# Altium footprint library Seeed-Connector.PCBLIB: 44 footprints (part 1 of 3)
Each footprint in its own frame and in the unit in brackets; x right, y up, seen from the top. Pads: shape width x height; smd on the part's side, far side on the other; paste and mask are expansions set on the pad; w line width, h text height; cw(c..) or ccw(c..) is an arc to the next point about the centre after c.
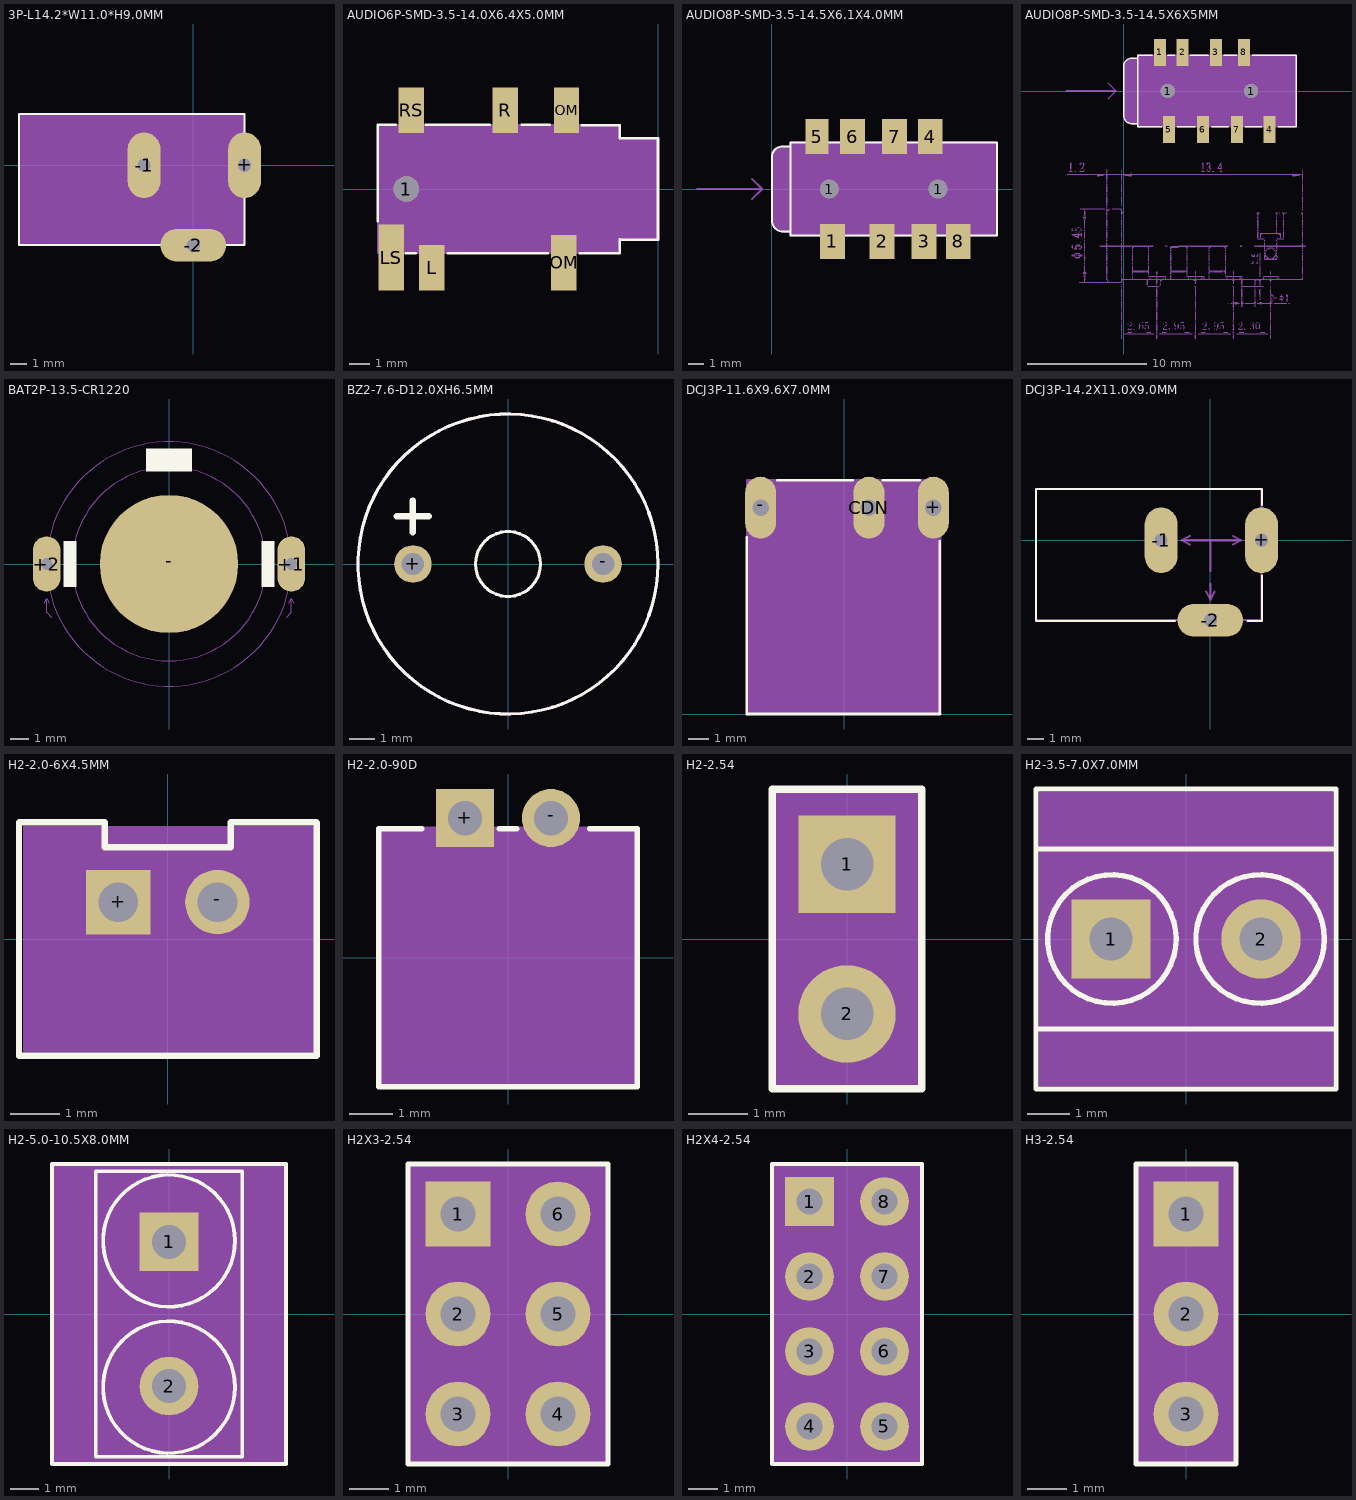
[diagram p0: the footprints below, top view; thin cyan lines are the x and y axes]

## 3P-L14.2*W11.0*H9.0MM [mil]
pads (3):
  oval 80x160 hole 32: +(125,0) -1(-120,0)
  oval 160x80 hole 32: -2(0,-195)
Top Overlay:
  lines w5: -425,-195 125,-195 125,125 -425,125 -425,-195
Bottom Overlay:
  circle w5: c250,-50 r26.93
  circle w5: c250,-50 r7.07
  circle w5: c250,-190 r29.15
  circle w5: c250,130 r29.15
  circle w5: c250,-50 r26.93
  circle w5: c250,-50 r7.07
  circle w5: c250,-190 r29.15
  circle w5: c250,130 r29.15
  lines w5: 230,-190 270,-190 ; 240,-95 250,-80 ; 240,25 250,10 ; 250,-210 250,-170 ; 250,-160 250,-80 ; 250,100 250,10 ; 250,110 250,150 ; 260,-95 250,-80 ; 260,25 250,10 ; 250,-55 250,-45 ; 250,-55 245,-50 250,-45 ; 250,-55 255,-50 250,-45 ; 210,-90 cw(c250,-50) 290,-90 ccw(c250,-50) 210,-90
Mechanical 11:
  region: -120,-55 -123.18,-55 -129.06,-52.56 -133.56,-48.06 -136,-42.18 -136,-39 -136,39 -136,42.18 -133.56,48.06 -129.06,52.56 -123.18,55 -120,55 -116.82,55 -110.94,52.56 -106.44,48.06 -104,42.18 -104,39 -104,-39 -104,-42.18 -106.44,-48.06 -110.94,-52.56 -116.82,-55
  region: 125,-55 121.82,-55 115.94,-52.56 111.44,-48.06 109,-42.18 109,-39 109,39 109,42.18 111.44,48.06 115.94,52.56 121.82,55 125,55 128.18,55 134.06,52.56 138.56,48.06 141,42.18 141,39 141,-39 141,-42.18 138.56,-48.06 134.06,-52.56 128.18,-55
  region: 55,-195 55,-198.18 52.56,-204.06 48.06,-208.56 42.18,-211 39,-211 -39,-211 -42.18,-211 -48.06,-208.56 -52.56,-204.06 -55,-198.18 -55,-195 -55,-191.82 -52.56,-185.94 -48.06,-181.44 -42.18,-179 -39,-179 39,-179 42.18,-179 48.06,-181.44 52.56,-185.94 55,-191.82
  lines w5: -50,-10 -70,0 ; -50,10 -70,0 ; -10,-125 0,-145 ; 0,-105 0,-145 ; 0,-75 0,0 ; 10,-125 0,-145 ; 55,-10 75,0 ; 55,10 75,0 ; -70,0 0,0 ; 0,0 75,0
  text "3 Slot Drills with copper" at -375,-100 h37.2
Mechanical 27:
  rectangle: -424.02,-194.49 124.8,123.23
  lines w0: -425,-195 125,-195 125,125 -425,125 -425,-195

## AUDIO6P-SMD-3.5-14.0X6.4X5.0MM [mil]
pads (7):
  round 50 hole 50: 1(-495,0)
  rect 50x90 smd: COM1(-180,155) L(-445,-155) R(-300,155) RS(-485,155)
  rect 50x110 smd: COM2(-185,-145)
  rect 50x130 smd: LS(-525,-135)
Top Overlay:
  lines w5: -551.18,-62.99 -551.18,125.98 -515.75,125.98 ; -496.06,-125.98 -476.38,-125.98 ; -456.69,125.98 -330.71,125.98 ; -413.39,-125.98 -216.54,-125.98 ; -267.72,125.98 -212.6,125.98 ; -153.54,-125.98 -74.8,-125.98 -74.8,-98.43 ; -149.61,125 -74.8,125 -74.8,102.36 ; -75,-100 0,-100 0,100 -75,100
Mechanical 1:
  lines w1: -127.56,-125 -127.56,125
Mechanical 11:
  region: -125,57 -100,57 -95.12,57.48 -86.11,61.21 -79.21,68.11 -75.48,77.12 -75,82 -75,100 0,100 0,-100 -75,-100 -75,-82 -75.48,-77.12 -79.21,-68.11 -86.11,-61.21 -95.12,-57.48 -100,-57 -125,-57
Mechanical 16:
  lines w5: -75,-100 -75,-125 -550,-125 -550,125 -75,125 -75,100
Mechanical 27:
  rectangle: -550,-125 -75,125

## AUDIO8P-SMD-3.5-14.5X6.1X4.0MM [mm]
pads (10):
  round 1.2 hole 1.2: 1(3.7,0) 1(10.7,0)
  rect 1.6x2.25 smd: 1(3.9,-3.375) 2(7.1,-3.375) 3(9.8,-3.375) 4(10.2,3.375) 6(5.2,3.375) 7(7.9,3.375) 8(12,-3.375)
  rect 1.5x2.25 smd: 5(2.9,3.375)
Top Overlay:
  lines w0.127: 1.2,-2.75 0.719,-2.75 cw(c0.719,-2.031) 0,-2.031 0,2.062 cw(c0.688,2.062) 0.688,2.75 1.2,2.75 ; 1.2,-2.75 1.2,-3 14.5,-3 14.5,3 1.2,3 1.2,2.75 ; 1.2,-2.75 1.2,2.75
Mechanical 11:
  region: 1.206,2.73 0.687,2.73 0.619,2.73 0.486,2.704 0.361,2.652 0.249,2.577 0.153,2.482 0.078,2.369 0.026,2.244 0,2.111 0,2.044 0,-1.942 0,-2.026 0.033,-2.191 0.097,-2.346 0.19,-2.485 0.309,-2.604 0.448,-2.697 0.603,-2.761 0.768,-2.794 0.852,-2.794 1.206,-2.794
  lines w0.025: 0,-1.869 ccw(c0.925,-1.869) 0.925,-2.794 1.206,-2.794 1.206,2.73 0.71,2.73 ccw(c0.71,2.021) 0,2.021 0,-1.869
  lines w0.127: -4.826,0 -0.635,0 ; -1.27,-0.635 -0.635,0 ; -1.27,0.635 -0.635,0
  text "The place have a bulge ," at -26.035,0.108 h1.38
  text "please place it out of board." at -26.035,-1.27 h1.38
Mechanical 27:
  rectangle: 1.143,-3.048 14.478,3.048

## AUDIO8P-SMD-3.5-14.5X6X5MM [mm]
pads (10):
  rect 1x2.25 smd: 1(3.05,3.24) 2(4.95,3.24) 3(7.75,3.24) 4(12.26,-3.24) 5(3.81,-3.24) 6(6.66,-3.24) 7(9.51,-3.24) 8(10.1,3.24)
  round 1.2 hole 1.2: 1(3.7,0) 1(10.7,0)
Top Overlay:
  lines w0.127: 2.4,3 1.2,3 1.2,2.75 ; 3.2,-3 1.2,-3 1.2,-2.75 ; 3.7,3 4.3,3 ; 4.5,-3 6,-3 ; 5.6,3 7.1,3 ; 7.4,-3 8.8,-3 ; 8.4,3 9.5,3 ; 10.2,-3 11.6,-3 ; 10.8,3 14.5,3 14.5,-3 13,-3 ; 1.2,-2.75 0.719,-2.75 cw(c0.719,-2.031) 0,-2.031 0,2.062 cw(c0.688,2.062) 0.688,2.75 1.2,2.75 ; 1.2,-2.75 1.2,2.75
Mechanical 11:
  region: 1.206,2.73 0.687,2.73 0.619,2.73 0.486,2.704 0.361,2.652 0.249,2.577 0.153,2.482 0.078,2.369 0.026,2.244 0,2.111 0,2.044 0,-1.942 0,-2.026 0.033,-2.191 0.097,-2.346 0.19,-2.485 0.309,-2.604 0.448,-2.697 0.603,-2.761 0.768,-2.794 0.852,-2.794 1.206,-2.794
  lines w0.025: 0,-1.869 ccw(c0.925,-1.869) 0.925,-2.794 1.206,-2.794 1.206,2.73 0.71,2.73 ccw(c0.71,2.021) 0,2.021 0,-1.869
  lines w0.127: -4.826,0 -0.635,0 ; -1.27,-0.635 -0.635,0 ; -1.27,0.635 -0.635,0
  text "The place have a bulge ," at -26.035,0.108 h1.38
  text "please place it out of board." at -26.035,-1.27 h1.38
Mechanical 14:
  drawing of 4872 lines, arcs and shapes, not listed
  text "left view:" at -21.717,-14.122 h1.21
Mechanical 16:
  lines w0.127: 1.2,-3 14.5,-3 ; 1.2,3 14.5,3
Mechanical 27:
  rectangle: 1.143,-3.048 14.478,3.048

## BAT2P-13.5-CR1220 [mil]
pads (3):
  oval 60x120 hole 25: +1(265,0) +2(-265,0)
  rrect100% 300x300 smd: -(0,0)
Top Overlay:
  rectangle: -50,200 50,250
  rectangle: -228.35,-50 -200,50
  rectangle: 200,-50 228.35,50
Mechanical 11:
  region: -277.5,15 -277.5,17.49 -275.6,22.08 -272.08,25.6 -267.49,27.5 -265,27.5 -262.51,27.5 -257.92,25.6 -254.4,22.08 -252.5,17.49 -252.5,15 -252.5,-15 -252.5,-17.49 -254.4,-22.08 -257.92,-25.6 -262.51,-27.5 -265,-27.5 -267.49,-27.5 -272.08,-25.6 -275.6,-22.08 -277.5,-17.49 -277.5,-15
  region: 252.5,15 252.5,17.49 254.4,22.08 257.92,25.6 262.51,27.5 265,27.5 267.49,27.5 272.08,25.6 275.6,22.08 277.5,17.49 277.5,15 277.5,-15 277.5,-17.49 275.6,-22.08 272.08,-25.6 267.49,-27.5 265,-27.5 262.51,-27.5 257.92,-25.6 254.4,-22.08 252.5,-17.49 252.5,-15
  lines w1: -270,-85 -265,-75 ; -260,-85 -265,-75 ; -255,-115 -265,-105 -265,-75 ; 255,-115 265,-105 265,-75 ; 260,-85 265,-75 ; 270,-85 265,-75
  text "slot drill with copper" at -275,-145 h49.6
Mechanical 16:
  circle w0: c0,0 r210
Mechanical 27:
  circle w0: c0,0 r265

## BZ2-7.6-D12.0XH6.5MM [mil]
pads (2):
  round 59.06 hole 35.43: +(-149.61,0) -(149.61,0)
Top Overlay:
  circle w5: c0,0 r236.22
  circle w5: c0,0 r51.18
  lines w10: -175,75 -150,75 ; -150,50 -150,75 ; -150,100 -150,75 ; -125,75 -150,75
Mechanical 27:
  circle w5: c0,0 r236.22

## DCJ3P-11.6X9.6X7.0MM [mil]
pads (3):
  oval 60x120 hole 32: +(172.5,400) -(-162.5,400) CDN(47.5,400)
Top Overlay:
  lines w5: -188.98,0 -188.98,342.52 ; -188.72,0 185.04,0 ; -129.92,452.76 15.75,452.76 ; 74.8,452.76 145.67,452.76 ; 185.04,334.65 185.04,0 ; 185.3,0 185.04,0
Bottom Overlay:
  circle w5: c22.5,525 r26.93
  circle w5: c22.5,525 r7.07
  circle w5: c162.5,525 r29.15
  circle w5: c-157.5,525 r29.15
  circle w5: c22.5,525 r26.93
  circle w5: c22.5,525 r7.07
  circle w5: c162.5,525 r29.15
  circle w5: c-157.5,525 r29.15
  lines w5: -177.5,525 -137.5,525 ; -127.5,525 -37.5,525 ; -52.5,515 -37.5,525 ; -52.5,535 -37.5,525 ; 67.5,515 52.5,525 ; 67.5,535 52.5,525 ; 132.5,525 52.5,525 ; 142.5,525 182.5,525 ; 162.5,505 162.5,545 ; 17.5,525 27.5,525 ; 17.5,525 22.5,520 27.5,525 ; 17.5,525 22.5,530 27.5,525 ; 62.5,485 cw(c22.5,525) 62.5,565 ccw(c22.5,525) 62.5,485
Mechanical 1:
  lines w1: -7.62,133.86 ccw(c0.26,133.86) 0.26,125.98 55.37,125.98 ccw(c55.37,133.86) 63.25,133.86 63.25,188.98 ccw(c55.38,188.97) 55.37,196.85 0.26,196.85 ccw(c0.26,188.97) -7.62,188.98 -7.62,133.86
Mechanical 11:
  region: -177.5,425 -177.5,427.98 -175.22,433.5 -171,437.72 -165.48,440 -162.5,440 -159.52,440 -154,437.72 -149.78,433.5 -147.5,427.98 -147.5,425 -147.5,375 -147.5,372.02 -149.78,366.5 -154,362.28 -159.52,360 -162.5,360 -165.48,360 -171,362.28 -175.22,366.5 -177.5,372.02 -177.5,375
  region: 32.5,425 32.5,427.98 34.78,433.5 39,437.72 44.52,440 47.5,440 50.48,440 56,437.72 60.22,433.5 62.5,427.98 62.5,425 62.5,375 62.5,372.02 60.22,366.5 56,362.28 50.48,360 47.5,360 44.52,360 39,362.28 34.78,366.5 32.5,372.02 32.5,375
  region: 157.5,425 157.5,427.98 159.78,433.5 164,437.72 169.52,440 172.5,440 175.48,440 181,437.72 185.22,433.5 187.5,427.98 187.5,425 187.5,375 187.5,372.02 185.22,366.5 181,362.28 175.48,360 172.5,360 169.52,360 164,362.28 159.78,366.5 157.5,372.02 157.5,375
  region: 32,425 32,427.98 34.28,433.5 38.5,437.72 44.02,440 47,440 49.98,440 55.5,437.72 59.72,433.5 62,427.98 62,425 62,375 62,372.02 59.72,366.5 55.5,362.28 49.98,360 47,360 44.02,360 38.5,362.28 34.28,366.5 32,372.02 32,375
  region: 157.5,425 157.5,427.98 159.78,433.5 164,437.72 169.52,440 172.5,440 175.48,440 181,437.72 185.22,433.5 187.5,427.98 187.5,425 187.5,375 187.5,372.02 185.22,366.5 181,362.28 175.48,360 172.5,360 169.52,360 164,362.28 159.78,366.5 157.5,372.02 157.5,375
  lines w5: -172.5,320 -162.5,340 ; -162.5,285 -162.5,340 ; -152.5,320 -162.5,340 ; 37.5,320 47.5,340 ; 47.5,285 47.5,340 ; 57.5,320 47.5,340 ; 162.5,320 172.5,340 ; 172.5,285 172.5,340 ; 182.5,320 172.5,340
  text "3 Slot drills with copper" at -302.5,250 h49.6
Mechanical 16:
  lines w5: -188.72,0 -188.72,452.76 185.3,452.76 185.3,0
Mechanical 27:
  rectangle: -188.72,0 185.3,452.76

## DCJ3P-14.2X11.0X9.0MM [mil]
pads (3):
  oval 80x160 hole 32: +(125,0) -1(-120,0)
  oval 160x80 hole 32: -2(0,-195)
Top Overlay:
  lines w5: -425.2,-192.91 -425.2,-196.85 -86.61,-196.85 ; -425,-195 -425,125 125,125 ; 90.55,-196.85 125.98,-196.85 125.98,-86.61 ; 125.98,86.61 125.98,125
Bottom Overlay:
  circle w5: c250,-50 r26.93
  circle w5: c250,-50 r7.07
  circle w5: c250,-190 r29.15
  circle w5: c250,130 r29.15
  circle w5: c250,-50 r26.93
  circle w5: c250,-50 r7.07
  circle w5: c250,-190 r29.15
  circle w5: c250,130 r29.15
  lines w5: 230,-190 270,-190 ; 240,-95 250,-80 ; 240,25 250,10 ; 250,-210 250,-170 ; 250,-160 250,-80 ; 250,100 250,10 ; 250,110 250,150 ; 260,-95 250,-80 ; 260,25 250,10 ; 250,-55 250,-45 ; 250,-55 245,-50 250,-45 ; 250,-55 255,-50 250,-45 ; 210,-90 cw(c250,-50) 290,-90 ccw(c250,-50) 210,-90
Mechanical 11:
  region: -120,-55 -123.18,-55 -129.06,-52.56 -133.56,-48.06 -136,-42.18 -136,-39 -136,39 -136,42.18 -133.56,48.06 -129.06,52.56 -123.18,55 -120,55 -116.82,55 -110.94,52.56 -106.44,48.06 -104,42.18 -104,39 -104,-39 -104,-42.18 -106.44,-48.06 -110.94,-52.56 -116.82,-55
  region: 125,-55 121.82,-55 115.94,-52.56 111.44,-48.06 109,-42.18 109,-39 109,39 109,42.18 111.44,48.06 115.94,52.56 121.82,55 125,55 128.18,55 134.06,52.56 138.56,48.06 141,42.18 141,39 141,-39 141,-42.18 138.56,-48.06 134.06,-52.56 128.18,-55
  region: 55,-195 55,-198.18 52.56,-204.06 48.06,-208.56 42.18,-211 39,-211 -39,-211 -42.18,-211 -48.06,-208.56 -52.56,-204.06 -55,-198.18 -55,-195 -55,-191.82 -52.56,-185.94 -48.06,-181.44 -42.18,-179 -39,-179 39,-179 42.18,-179 48.06,-181.44 52.56,-185.94 55,-191.82
  lines w5: -50,-10 -70,0 ; -50,10 -70,0 ; -10,-125 0,-145 ; 0,-105 0,-145 ; 0,-75 0,0 ; 10,-125 0,-145 ; 55,-10 75,0 ; 55,10 75,0 ; -70,0 0,0 ; 0,0 75,0
  text "3 Slot Drills with copper" at -375,-100 h37.2
Mechanical 16:
  lines w5: -425,-195 125,-195 125,125
Mechanical 27:
  lines w0: -425,-195 125,-195 125,125 -425,125 -425,-195

## H2-2.0-6X4.5MM [mil]
pads (2):
  rect 51.18x51.18 hole 31.5: +(-39.37,29.53)
  round 51.18 hole 31.5: -(39.37,29.53)
Top Overlay:
  lines w5: -118.11,92.52 -118.11,-92.52 118.11,-92.52 118.11,92.52 ; -118,93 -50,93 -50,73 50,73 50,93 118,93
Mechanical 27:
  region: 120,90 -115,90 -115,-90 120,-90

## H2-2.0-90D [mm]
pads (2):
  rect 1.35x1.35 hole 0.8: +(-1,3.25)
  round 1.35 hole 0.8: -(1,3.25)
Top Overlay:
  lines w0.127: -2,3 -3,3 -3,-3 3,-3 3,3 1.9,3 ; -0.2,3 0.2,3
Mechanical 27:
  rectangle: -3.048,-3.048 3.048,3.048

## H2-2.54 [mil]
pads (2):
  rect 65x65 hole 35: 1(0,50)
  round 65 hole 35: 2(0,-50)
Top Overlay:
  lines w5: -50,-100 50,-100 50,100 -50,100 -50,-100
Mechanical 27:
  rectangle: -50,-100 50,100
  lines w0: -50,-100 -50,100 50,100 50,-100

## H2-3.5-7.0X7.0MM [mm]
pads (2):
  rect 1.85x1.85 hole 1: 1(-1.75,0)
  round 1.85 hole 1: 2(1.75,0)
Top Overlay:
  circle w0.127: c-1.73,0 r1.5
  circle w0.127: c1.73,0 r1.5
  lines w0.127: -3.5,-2.1 -3.5,-3.5 3.5,-3.5 3.5,-2.1 ; -3.5,-2.1 -3.5,2.1 ; -3.5,-2.1 3.5,-2.1 ; -3.5,2.1 -3.5,3.5 3.5,3.5 3.5,2.1 ; -3.5,2.1 3.5,2.1 ; 3.5,-2.1 3.5,2.1
Mechanical 27:
  rectangle: -3.429,-3.429 3.429,3.429

## H2-5.0-10.5X8.0MM [mil]
pads (2):
  rect 80x80 hole 46: 1(0,98.43)
  round 80 hole 46: 2(0,-98.43)
Top Overlay:
  circle w5: c0,100 r90.14
  circle w5: c0,-100 r90.14
  lines w5: -160,-205 160,-205 160,205 -160,205 -160,-205 ; -100,-195 100,-195 100,195 -100,195 -100,-195
Mechanical 27:
  rectangle: -160,-205 160,205

## H2X3-2.54 [mil]
pads (6):
  rect 65x65 hole 35: 1(-50,100)
  round 65 hole 35: 2(-50,0) 3(-50,-100) 4(50,-100) 5(50,0) 6(50,100)
Top Overlay:
  lines w5: -100,-150 100,-150 100,150 -100,150 -100,-150
Mechanical 27:
  rectangle: -100,-150 100,150
  lines w0: -100,-150 100,-150 100,150 -100,150 -100,-150

## H2X4-2.54 [mil]
pads (8):
  rect 65x65 hole 35: 1(-50,150)
  round 65 hole 35: 2(-50,50) 3(-50,-50) 4(-50,-150) 5(50,-150) 6(50,-50) 7(50,50) 8(50,150)
Top Overlay:
  lines w5: -100,-200 100,-200 100,200 -100,200 -100,-200
Mechanical 27:
  rectangle: -100,-200 100,200

## H3-2.54 [mil]
pads (3):
  rect 65x65 hole 35: 1(0,100)
  round 65 hole 35: 2(0,0) 3(0,-100)
Top Overlay:
  lines w5: -50,-150 50,-150 50,150 -50,150 -50,-150
Mechanical 27:
  rectangle: -50,-150 50,150
  lines w0: -50,-150 50,-150 50,150 -50,150 -50,-150